# Altium footprint library MISC_Library.PcbLib: 19 footprints (part 1 of 2)
Each footprint in its own frame and in the unit in brackets; x right, y up, seen from the top. Pads: shape width x height; smd on the part's side, far side on the other; paste and mask are expansions set on the pad; w line width, h text height; cw(c..) or ccw(c..) is an arc to the next point about the centre after c.
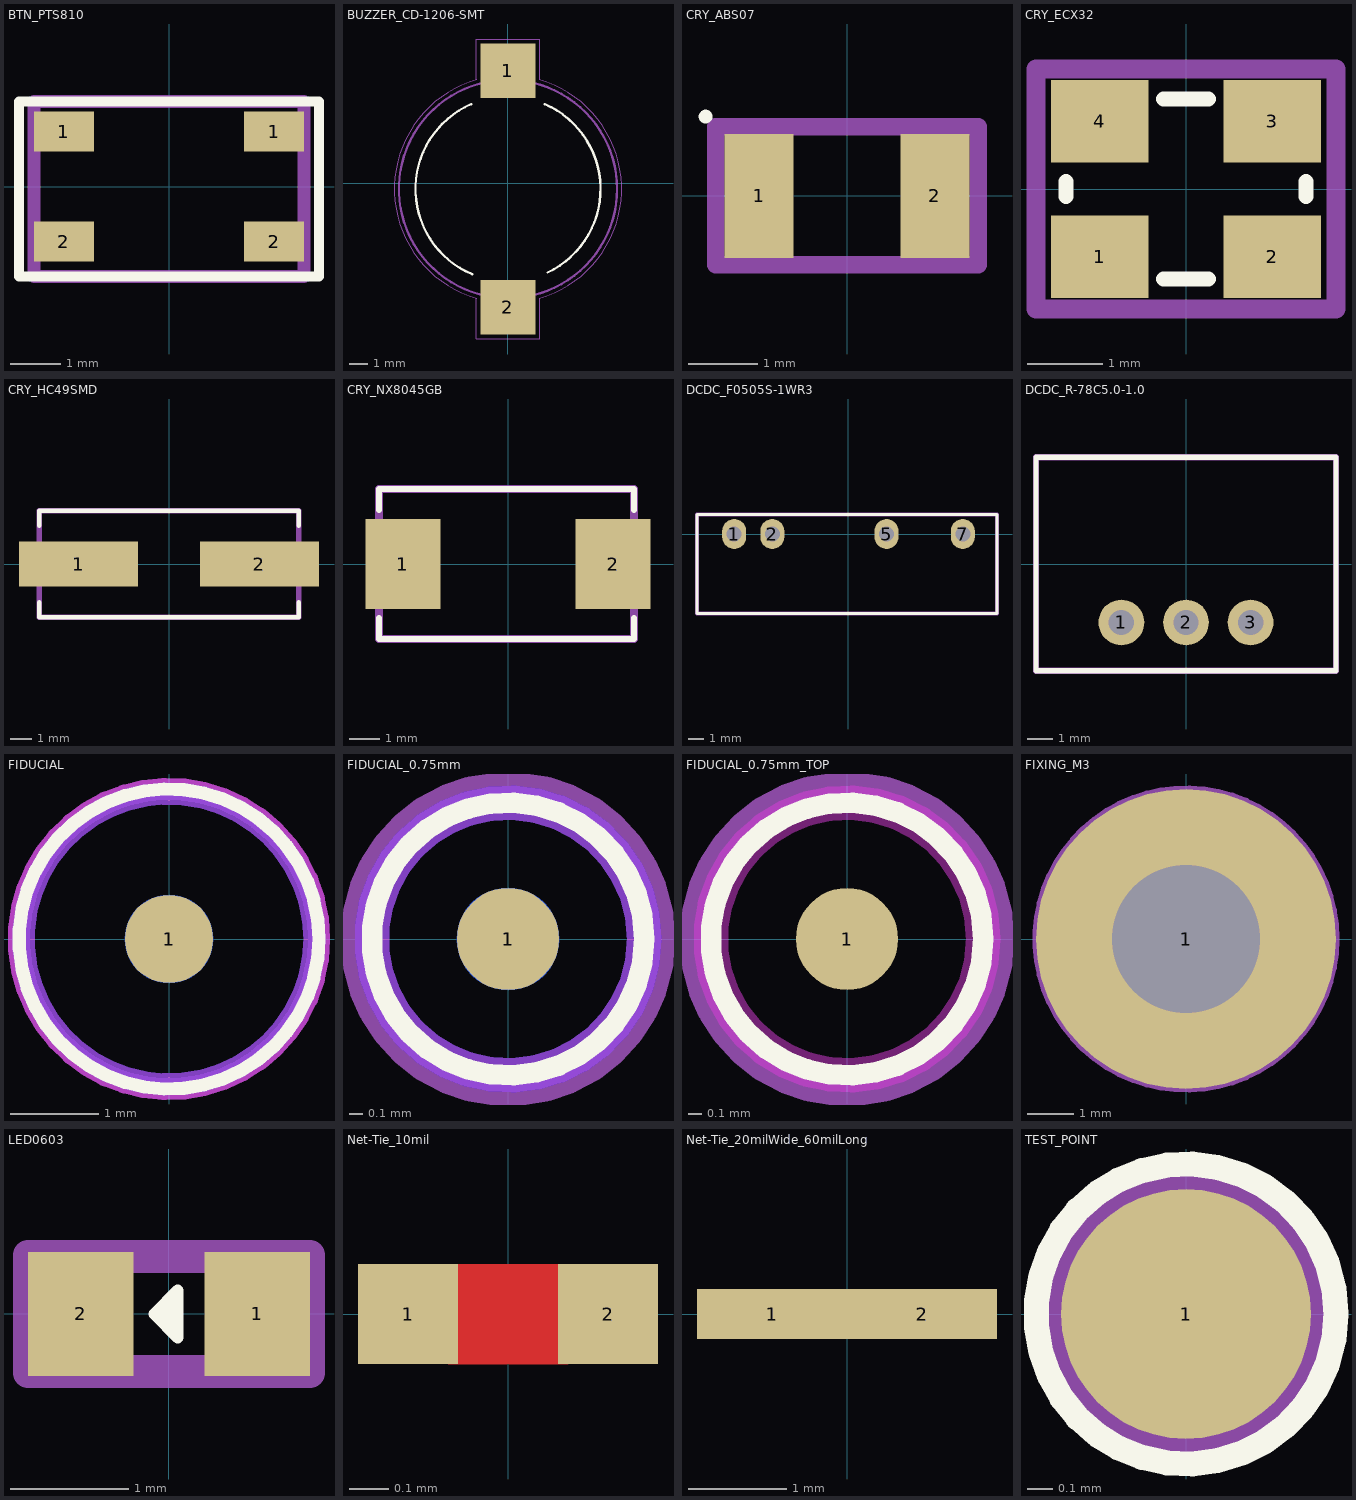
[diagram p0: the footprints below, top view; thin cyan lines are the x and y axes]

## BTN_PTS810 [mm]
pads (4):
  rect 1.2x0.8 smd mask+0.05: 1(-2.1,1.1) 1(2.1,1.1) 2(-2.1,-1.1) 2(2.1,-1.1)
Top Overlay:
  lines w0.2: -3,-1.8 3,-1.8 3,1.7 -3,1.7 -3,-1.8
Top Designator:
  lines w0.254: -2.7,-1.8 -2.7,1.7 2.7,1.7 2.7,-1.8 -2.7,-1.8
  text ".Designator" at 7.618,0.508 h1.52
3D body "User Library-PTS810.STEP": height 2.5, standoff 0, extent -2.301,-1.6 2.298,1.6

## BUZZER_CD-1206-SMT [mm]
pads (2):
  rect 3x3 smd: 1(0,6.175) 2(0,-6.825)
Top Overlay:
  lines w0.127: -2.017,4.341 ccw(c-0.008,-0.325) -1.973,-5.009 ; 2.018,4.341 cw(c0.008,-0.325) 2.171,-4.921
Top Designator:
  circle w0.127: c0,-0.325 r6
  circle w0.127: c0,-0.325 r6
  text ".Designator" at -9.997,-0.666 h2
Mechanical 16:
  lines w0.05: -1.75,-6.325 -1.75,-8.575 1.75,-8.575 1.75,-6.325 ; -1.75,5.675 -1.75,7.925 1.75,7.925 1.75,5.675 ; -1.724,-6.332 cw(c-0.001,-0.325) -1.724,5.683 ; 1.724,-6.332 ccw(c0.001,-0.325) 1.724,5.683
3D body "CUI_DEVICES_CD-1206-SMT.step": height 9, standoff 0, extent -6,-7.825 6,7.175

## CRY_ABS07 [mm]
pads (2):
  rect 1x1.8 smd: 1(-1.275,0) 2(1.275,0)
Top Overlay:
  circle w0.1: c-2.05,1.15 r0.05
Top Designator:
  lines w0.254: -1.9,-1 1.9,-1 1.9,1 -1.9,1 -1.9,-1
  text ".Designator" at 3.809,0.254 h0.76
3D body "User Library-ABS07.STEP": height 0.91, standoff 0, extent -1.61,-0.76 1.61,0.76

## CRY_ECX32 [mm]
pads (4):
  rect 1.3x1.1 smd mask+0.05: 1(-1.15,-0.9) 2(1.15,-0.9) 3(1.15,0.9) 4(-1.15,0.9)
Top Overlay:
  lines w0.2: -1.6,-0.1 -1.6,0.1 ; -0.3,-1.2 0.3,-1.2 ; -0.3,1.2 0.3,1.2 ; 1.6,-0.1 1.6,0.1
Top Designator:
  lines w0.254: -2,-1.6 2,-1.6 2,1.6 -2,1.6 -2,-1.6
  text ".Designator" at 7.618,0.508 h1.52
3D body "User Library-Crystal_ECX-32.STEP": height 0.82, standoff 0, extent -1.6,-1.25 1.6,1.25

## CRY_HC49SMD [mm]
pads (2):
  rect 5.6x2.1 smd: 1(-4.25,0) 2(4.25,0)
Top Overlay:
  lines w0.2: -6.096,-1.8 -6.096,-2.5 6.096,-2.5 6.096,-1.8 ; -6.096,1.8 -6.096,2.5 6.096,2.5 6.096,1.8
Top Designator:
  lines w0.254: -6.096,-2.5 -6.096,2.5 6.096,2.5 6.096,-2.5 -6.096,-2.5
  text ".Designator" at 7.618,0.508 h1.52
3D body "User Library-HC49-SMD.step": height 3.52, standoff 0, extent -7.5,-2.25 7.5,2.25

## CRY_NX8045GB [mm]
pads (2):
  rect 2.5x3 smd: 1(-3.5,0) 2(3.5,0)
Top Overlay:
  lines w0.2: -4.3,-1.8 -4.3,-2.5 4.2,-2.5 4.2,-1.8 ; -4.3,1.8 -4.3,2.5 4.2,2.5 4.2,1.8
Top Designator:
  lines w0.254: -4.3,-2.5 4.2,-2.5 4.2,2.5 -4.3,2.5 -4.3,-2.5
  text ".Designator" at 7.618,0.508 h1.52
3D body "SW3dPS-cry_8045.STEP": height 1.8, standoff 0, extent -4,-2.25 4,2.25

## DCDC_F0505S-1WR3 [mm]
pads (4):
  oval 1.6x2 hole 1: 1(-7.62,0) 2(-5.08,0) 5(2.54,0) 7(7.62,0)
Top Overlay:
  lines w0.2: -10.1,-5.3 9.9,-5.3 9.9,1.3 -10.1,1.3 -10.1,-5.3
Top Designator:
  lines w0.254: -10.1,-5.3 -10.1,1.3 9.9,1.3 9.9,-5.3 -10.1,-5.3
  text ".Designator" at 7.618,0.508 h1.52
3D body "F_S-1WR3.stp": height 10.16, standoff -4.1, extent -9.945,-5.118 9.704,0.882

## DCDC_R-78C5.0-1.0 [mm]
pads (3):
  round 1.8 hole 1: 1(-2.54,-2.3) 2(0,-2.3) 3(2.54,-2.3)
Top Overlay:
  lines w0.2: -5.9,-4.2 5.9,-4.2 5.9,4.2 -5.9,4.2 -5.9,-4.2
Top Designator:
  lines w0.254: -5.9,-4.2 -5.9,4.2 5.9,4.2 5.9,-4.2 -5.9,-4.2
  text ".Designator" at 7.618,0.508 h1.52
3D body "R-78C5.0-1.0--3DModel-STEP-1.STEP": height 10.4, standoff -4.1, extent -5.8,-4.26 5.8,4.25

## FIDUCIAL [mm]
pads (2):
  round 1 smd mask+1.5: 1(0,0)
  round 1 smd far side mask+1.5: 1(0,0)
Top Layer keep-out:
  circle w0.254: c0,0 r1.7
Bottom Layer keep-out:
  circle w0.254: c0,0 r1.649
Top Overlay:
  circle w0.15: c0,0 r1.7
Bottom Overlay:
  circle w0.15: c0,0 r1.7
Top Designator:
  circle w0.254: c0,0 r1.7
  text ".Designator" at -5.078,-0.339 h1.02

## FIDUCIAL_0.75mm [mm]
pads (2):
  round 0.75 smd mask+0.75: 1(0,0)
  round 0.75 smd far side mask+0.75: 1(0,0)
Top Layer keep-out:
  circle w0.254: c0,0 r1
Bottom Layer keep-out:
  circle w0.254: c0,0 r1
Top Overlay:
  circle w0.15: c0,0 r1
Bottom Overlay:
  circle w0.15: c0,0 r1
Top Designator:
  circle w0.254: c0,0 r1.1
  text ".Designator" at -3.809,-0.254 h0.76

## FIDUCIAL_0.75mm_TOP [mm]
pads (1):
  round 0.75 smd mask+0.75: 1(0,0)
Top Layer keep-out:
  circle w0.254: c0,0 r1
Top Overlay:
  circle w0.15: c0,0 r1
Bottom Overlay:
  circle w0.15: c0,0 r1
Top Designator:
  circle w0.254: c0,0 r1.1
  text ".Designator" at -3.809,-0.254 h0.76

## FIXING_M3 [mm]
pads (1):
  round 6.5 hole 3.2: 1(0,0)
Top Designator:
  circle w0.254: c0,0 r3.2
  text ".Designator" at -5.078,-0.339 h1.02

## LED0603 [mm]
pads (2):
  rect 0.9x1.05 smd: 1(0.75,0) 2(-0.75,0)
Top Overlay:
  lines w0.1: -0.025,-0.1 0.075,0 ; -0.025,0.1 0.075,0 ; -0.125,0 0.075,0 ; -0.125,0 0.075,0.2 0.075,-0.2 -0.125,0
Top Designator:
  lines w0.254: -1.2,-0.5 -1.2,0.5 1.2,0.5 1.2,-0.5 -1.2,-0.5
  text ".Designator" at -2.539,-0.169 h0.51
Top 3D Body:
  lines w0.1: -0.8,-0.4 -0.8,0.4 0.8,0.4 0.8,-0.4 -0.8,-0.4
3D body "STEP-WL-SMCW-0603-rev1.stp": height 0.7, standoff 0, extent -0.8,-0.4 0.8,0.4

## Net-Tie_10mil [mil] "10mil net tie, no solder mask opening, no solder paste"
pads (2):
  rect 10x10 smd paste-5 mask-5: 1(-10,0) 2(10,0)
Top Layer:
  region: -6,5 6,5 6,-5 -6,-5

## Net-Tie_20milWide_60milLong [mil] "20mil net tie, no solder mask opening, no solder paste"
pads (2):
  rect 60x20 smd paste-10 mask-10: 1(-30,0) 2(30,0)

## TEST_POINT [mm]
pads (1):
  round 1 smd: 1(0,0)
Top Overlay:
  circle w0.1: c0,0 r0.6
Top Designator:
  circle w0.127: c0,0 r0.508
  lines w0.127: -0.508,0 0,0 ; -0.3,-0.3 0,0 ; -0.3,0.3 0,0 ; 0,-0.508 0,0 ; 0,0.508 0,0 ; 0.3,-0.3 0,0 ; 0.3,0.3 0,0 ; 0.508,0 0,0